# Altium footprint library QSS-016-01-X-D-DP-A.PcbLib: 1 footprints
Each footprint in its own frame and in the unit in brackets; x right, y up, seen from the top. Pads: shape width x height; smd on the part's side, far side on the other; paste and mask are expansions set on the pad; w line width, h text height; cw(c..) or ccw(c..) is an arc to the next point about the centre after c.
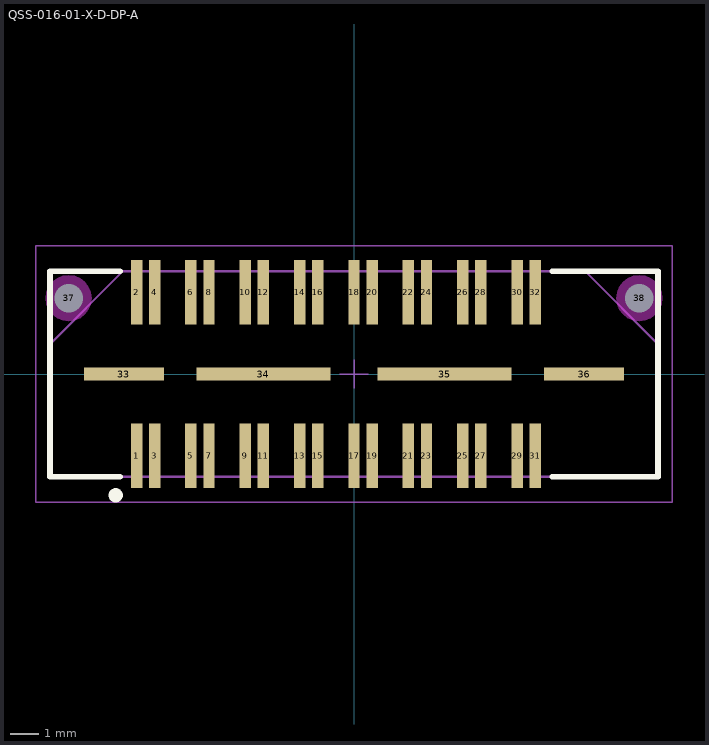
[diagram p0: the footprint, top view; thin cyan lines are the x and y axes]

## QSS-016-01-X-D-DP-A [mm] "0.635mm pitch, 32 pin, high speed socket; differential"
height 3.43
pads (38):
  rect 0.4x2.25 smd mask+0: 1(-7.62,-2.865) 2(-7.62,2.865) 3(-6.985,-2.865) 4(-6.985,2.865) 5(-5.715,-2.865) 6(-5.715,2.865) 7(-5.08,-2.865) 8(-5.08,2.865) 9(-3.81,-2.865) 10(-3.81,2.865) 11(-3.175,-2.865) 12(-3.175,2.865) 13(-1.905,-2.865) 14(-1.905,2.865) 15(-1.27,-2.865) 16(-1.27,2.865) 17(0,-2.865) 18(0,2.865) 19(0.635,-2.865) 20(0.635,2.865) 21(1.905,-2.865) 22(1.905,2.865) 23(2.54,-2.865) 24(2.54,2.865) 25(3.81,-2.865) 26(3.81,2.865) 27(4.445,-2.865) 28(4.445,2.865) 29(5.715,-2.865) 30(5.715,2.865) 31(6.35,-2.865) 32(6.35,2.865)
  rect 2.8x0.45 smd mask+0: 33(-8.064,0) 36(8.064,0)
  rect 4.7x0.45 smd mask+0: 34(-3.175,0) 35(3.175,0)
  round 0.5 hole 1 unplated mask+0: 37(-10.003,2.657) 38(10,2.657)
Top Overlay:
  circle w0.25: c-8.35,-4.25 r0.125
  lines w0.2: -8.2,-3.6 -10.65,-3.6 -10.65,3.6 -8.2,3.6 ; 6.95,-3.6 10.65,-3.6 10.65,3.6 6.95,3.6
Keep-Out Layer:
  pour cut-out: -9.196,2.657 -9.224,2.866 -9.304,3.06 -9.432,3.228 -9.6,3.356 -9.794,3.436 -10.003,3.464 -10.212,3.436 -10.406,3.356 -10.574,3.228 -10.702,3.06 -10.782,2.866 -10.81,2.657 -10.782,2.448 -10.702,2.254 -10.574,2.086 -10.406,1.958 -10.212,1.878 -10.003,1.85 -9.794,1.878 -9.6,1.958 -9.432,2.086 -9.304,2.254 -9.224,2.448
  pour cut-out: 10.807,2.657 10.779,2.866 10.699,3.06 10.571,3.228 10.403,3.356 10.209,3.436 10,3.464 9.791,3.436 9.597,3.356 9.429,3.228 9.301,3.06 9.221,2.866 9.193,2.657 9.221,2.448 9.301,2.254 9.429,2.086 9.597,1.958 9.791,1.878 10,1.85 10.209,1.878 10.403,1.958 10.571,2.086 10.699,2.254 10.779,2.448
Mechanical 12:
  lines w0.001: -10.65,-3.6 10.65,-3.6 10.65,3.6 -10.65,3.6 -10.65,-3.6
Mechanical 13:
  lines w0.076: -10.65,1.05 -8.1,3.6 ; 8.1,3.6 10.65,1.05
  lines w0.1: -10.65,-3.6 10.65,-3.6 10.65,3.6 -10.65,3.6 -10.65,-3.6
  text ".Designator" at 0,0 h1.52
Mechanical 15:
  lines w0.05: -0.5,0 0.5,0 ; 0,-0.5 0,0.5 ; -11.15,-4.5 11.15,-4.5 11.15,4.5 -11.15,4.5 -11.15,-4.5